# Altium footprint library DB107-BP.PcbLib: 1 footprints
Each footprint in its own frame and in the unit in brackets; x right, y up, seen from the top. Pads: shape width x height; smd on the part's side, far side on the other; paste and mask are expansions set on the pad; w line width, h text height; cw(c..) or ccw(c..) is an arc to the next point about the centre after c.
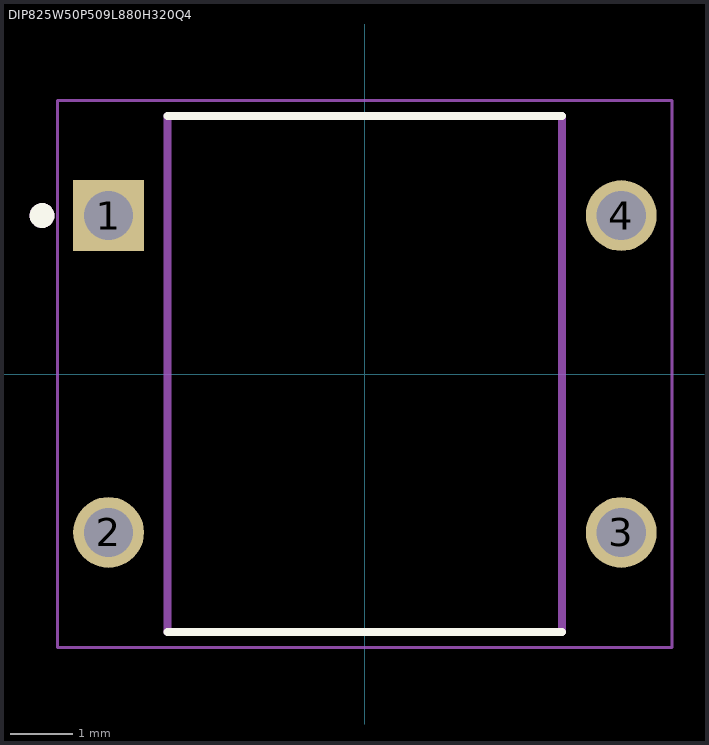
[diagram p0: the footprint, top view; thin cyan lines are the x and y axes]

## DIP825W50P509L880H320Q4 [mm]
pads (4):
  rect 1.14x1.14 hole 0.79: 1(-4.125,2.55)
  round 1.14 hole 0.79: 2(-4.125,-2.55) 3(4.125,-2.55) 4(4.125,2.55)
Top Overlay:
  circle w0.2: c-5.195,2.55 r0.1
  lines w0.127: -3.175,-4.15 3.175,-4.15 ; -3.175,4.15 3.175,4.15
Mechanical 13:
  circle w0.2: c-5.195,2.55 r0.1
  lines w0.127: -3.175,-4.15 -3.175,4.15 3.175,4.15 3.175,-4.15 -3.175,-4.15
Mechanical 15:
  lines w0.05: -4.945,-4.4 -4.945,4.4 4.945,4.4 4.945,-4.4 -4.945,-4.4
3D body "step_temp.STEP": height 3.3, standoff -4.3, extent -4.2,-4.14 4.2,4.14